# Altium footprint library oscilator.PcbLib: 1 footprints
Each footprint in its own frame and in the unit in brackets; x right, y up, seen from the top. Pads: shape width x height; smd on the part's side, far side on the other; paste and mask are expansions set on the pad; w line width, h text height; cw(c..) or ccw(c..) is an arc to the next point about the centre after c.
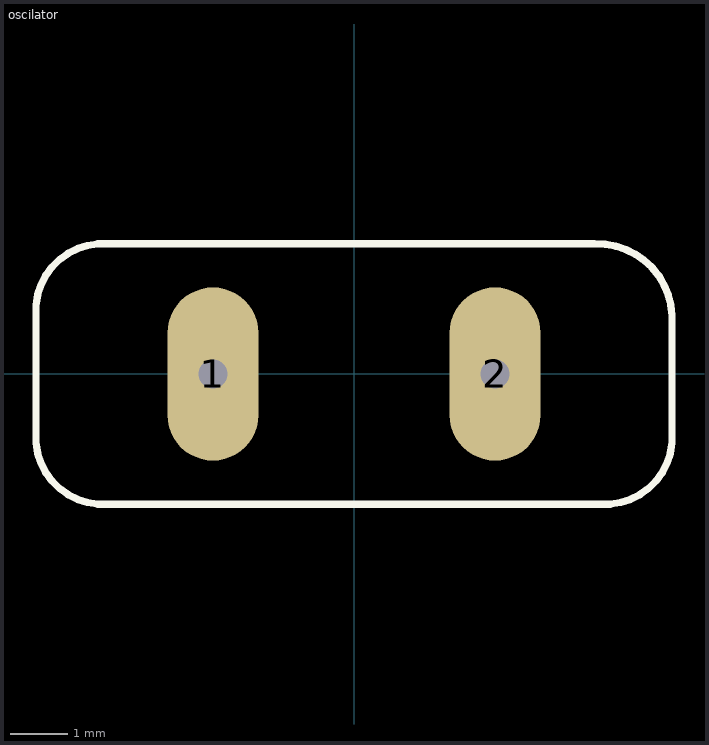
[diagram p0: the footprint, top view; thin cyan lines are the x and y axes]

## oscilator [mil]
pads (2):
  oval 62x118 hole 19.68: 1(-96.06,0) 2(96.06,0)
Top Overlay:
  lines w5: -216.54,-39.76 ccw(c-171.06,-43.11) -174.41,-88.58 174.41,-88.58 ccw(c171.06,-43.11) 216.54,-39.76 216.54,39.76 ccw(c165.73,37.78) 163.74,88.58 -174.41,88.58 ccw(c-171.06,43.11) -216.54,39.76 -216.54,-39.76